# EAGLE library part ADG658 (library analog-devices)
+3 V/+5 V/±5 V CMOS 8-Channel Analog Multiplexers Source: ADG658_659.pdf
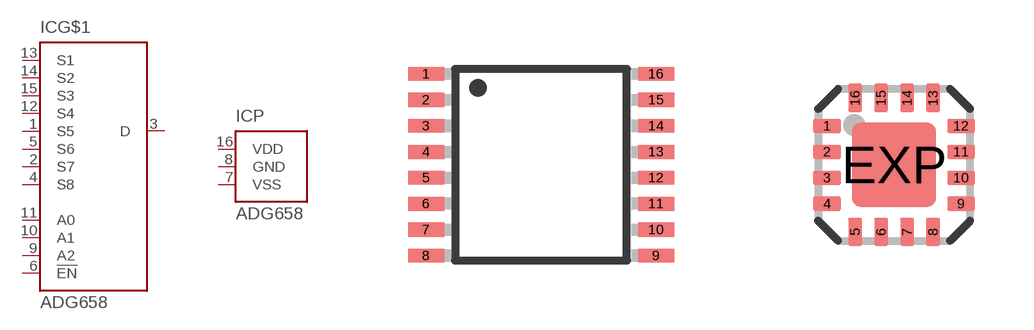
[diagram p66: symbol with the pads of TSSOP16; footprints TSSOP16, LFCSP16]

Designator prefix IC; gates P=PWR-VSS_GND_VDD G$1=ADG658

## ADG658RU (MPN: ADG658YRUZ; OC_FARNELL: 1438947; OC_NEWARK: 19M8665)  [TSSOP16]
1  G$1:S5
2  G$1:S7
3  G$1:D
4  G$1:S8
5  G$1:S6
6  G$1:!EN  in
7  P:VSS  pwr
8  P:GND  pwr
9  G$1:A2  in
10  G$1:A1  in
11  G$1:A0  in
12  G$1:S4
13  G$1:S1
14  G$1:S2
15  G$1:S3
16  P:VDD  pwr

## ADG658CP (MF: ALTERA CORPORATION; MPN: ADG658YCP; OC_FARNELL: unknown; OC_NEWARK: 87H9636)  [LFCSP16]
1  G$1:D
2  G$1:S8
3  G$1:S6
4  G$1:!EN  in
5  P:VSS  pwr
6  P:GND  pwr
7  G$1:A2  in
8  G$1:A1  in
9  G$1:A0  in
10  G$1:S4
11  G$1:S1
12  G$1:S2
13  G$1:S3
14  P:VDD  pwr
15  G$1:S5
16  G$1:S7

## ADG658RQ (MF: ALTERA CORPORATION; MPN: ADG658YRQ-REEL7; OC_FARNELL: 1438947; OC_NEWARK: 59K1455)  [QSOP16]
Pads as for TSSOP16

## Footprint TSSOP16 (pad centres in mm)
16-Lead Thin Shrink Small Outline Package [TSSOP] (RU-16) Source: 8x ADG1408_1409.pdf
smd 0.9 x 0.35: 1 -2.875,2.275; 2 -2.875,1.625; 3 -2.875,0.975; 4 -2.875,0.325; 5 -2.875,-0.325; 6 -2.875,-0.975; 7 -2.875,-1.625; 8 -2.875,-2.275; 9 2.875,-2.275; 10 2.875,-1.625; 11 2.875,-0.975; 12 2.875,-0.325; 13 2.875,0.325; 14 2.875,0.975; 15 2.875,1.625; 16 2.875,2.275

## Footprint LFCSP16 (pad centres in mm)
16-Terminal Leadless Frame Chip Scale Package [LFCSP] (CP) Source: Analog Devices .. 780914713ADD8704_0.pdf
smd 0.7 x 0.35: 1 -1.675,0.975; 2 -1.675,0.325; 3 -1.675,-0.325; 4 -1.675,-0.975; 9 1.675,-0.975; 10 1.675,-0.325; 11 1.675,0.325; 12 1.675,0.975
smd 0.35 x 0.7: 5 -0.975,-1.675; 6 -0.325,-1.675; 7 0.325,-1.675; 8 0.975,-1.675; 13 0.975,1.675; 14 0.325,1.675; 15 -0.325,1.675; 16 -0.975,1.675
smd 2.1 x 2.1: EXP 0,0

## Footprint QSOP16 (pad centres in mm)
16-Lead Shrink Small Outline Package QSOP (RQ-16) Source: ADG658_659.pdf
smd 0.381 x 1.27: 1 -2.223,-2.6; 2 -1.587,-2.6; 3 -0.953,-2.6; 4 -0.318,-2.6; 5 0.318,-2.6; 6 0.953,-2.6; 7 1.587,-2.6; 8 2.223,-2.6; 9 2.223,2.6; 10 1.587,2.6; 11 0.953,2.6; 12 0.318,2.6; 13 -0.318,2.6; 14 -0.953,2.6; 15 -1.587,2.6; 16 -2.223,2.6